# Altium schematic symbol library Schlib1.SchLib: 5 symbols
Pins are listed as number, name and electrical type; pins without a type are passive.

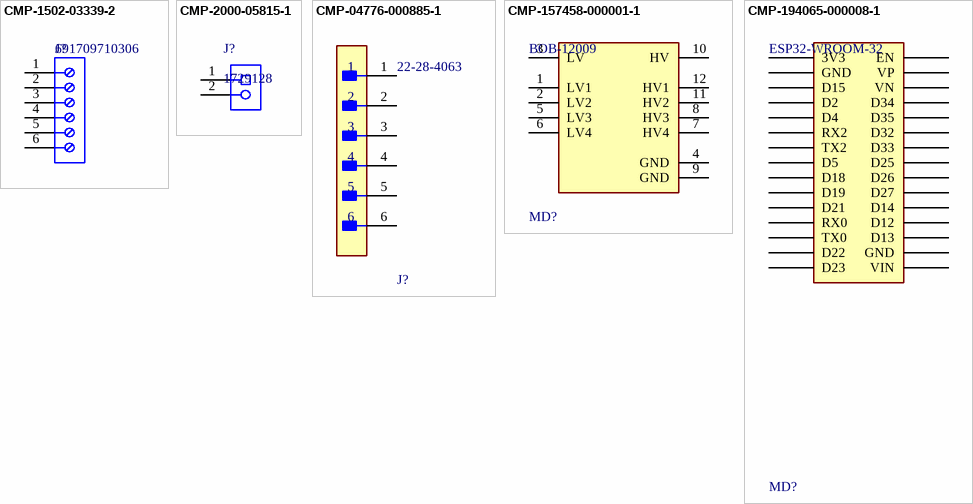
[diagram p0: symbols CMP-1502-03339-2 to CMP-194065-000008-1]

## CMP-1502-03339-2
designator J?, comment 691709710306
NexarPartId: 34171773; Wire/Cable Gauge: 30AWG; Pitch: 5mm; Wire Gauge (Min): 14AWG; Plating: Steel; Current: 6A; Number of Levels: 1; Voltage Rating: 300V; Number of Contacts: 6; Connector Type: Screw; Flammability Rating: UL94 V-0; Housing Material: Nylon; REACH SVHC: Unknown; Lead Pitch: 5mm; Contact Plating: Tin; Mount: Surface Mount; Height: 10.2mm; Number of Rows: 1; Min Operating Temperature: -40°C; RoHS: Compliant; Color: Black; Contact Material: Nickel; Wire Gauge (Max): 30AWG; Number of Pins: 6; Length: 30mm; Number of Positions: 6; Packaging: Tape & Reel (TR); Number of Positions Per Level: 6; Max Operating Temperature: 130°C; Termination: Screw; Current Rating: 6A; Voltage: 300V
footprint 691709710306 (Horizontal Entry SMT with Pressure Clamp, pitch 5mm, 06p)
pins: 1, 2, 3, 4, 5, 6

## CMP-2000-05815-1
designator J?, comment 1729128
PCB Terminal Block, 13.5 A, 400 V, 2-Pin THD, RoHS, Bulk; Manufacturer: Phoenix Contact; Package Version: 03/2015; No. of Rows: 1; Pitch: 5.08mm; No. of Positions: 2; Voltage Rating: 400V; Current Rating: 13500mA; Manufacturer URL: http://www.phoenixcontact.com/; Datasheet URL: https://datasheet.ciiva.com/16046/1729128-16046181.pdf; RoHS: TRUE; Package URL: https://www.phoenixcontact.com/online/portal/pi/pxc/product_detail_page/!ut/p/b1/3VdJjqNKFDxLH8AFycySyWY2ozFsEPOMMQaDOX1XedGL_1Vdm5YXJleknhSKeBkvI6EA8ncAo3AYoDhBQGco6KN7VURTdemj9us_IEKEZo_YHiPAEWEFmDGOHMORkqKYCORBZxgL7ZoaZYcbFFUZ3fqxSY6GOuxydWUuHqz1ynmMFygu583Bob0Ewr6Sd_l-5m-kAueHiB0jpRwZwe58wwtkpxtMYd_LmGcDRU02dRNEyWt6Y2ti5pSyJ_reIkzIulrqApdnbT11V5jnCKbYNCvhEM1MCpPByat_X379-iThf08CI5GfOPqfBeS3BRoBOdD55AKVv0iLwCMq-2BrzXWSGRH7pUGD9uwXQjiph3xL0DKQwdGa0JImiIOmBNOestqgwTHSSs2oOep-78apyXQBvNi8ZLaFjvjWvcaUEBu0MC6Wbe-d6mB0FAebo2lUWinqYaZs5DAYzV0RP9yitUjnGJ0iI9xhZkT42OCQNUJJhkgWINNQLP2JFP6OpMg3JCVg70jqHT0lvKOnhHf0lPuOnnLf0VPuWx6_dxwUIvwk5WMkT0kLL1mh61l2yZVSzG3pYV_bqo-mj6uMKwKwdnnW8Jh5RTOJzMOA5c-eJDaZQw4mTMPH02PvS_ZAqNVjVTo2WyYLkwH_KU1mmmG5kjRhDqPXLwwVHvVOjCM60-fpXvTDfMGW1PVFVS1r4e4yVDk4ZdNbkUHvqPqQSeian4UD39fNKmachqdJ1NJbyk8rXT9mXTvPk3oE5meulKGgiruPJek-4I9hTT6G8ZLOyRSm2RRVbThERQad5OS28hdt4YW4vG0stgYYzsWsK4_7y6DZMjJSCqri1kyiZR5vD7pwIrNR7QwPHTcLTI5qT7eRlpHrdGiupYlqQDJ7zy_CND8fWWBoLRXxk1RVcXiBQwbTD4Xi7KL-FuO94t9xaqweXzH; PartNumber: 1729128; Package Description: 2-Pin Through Hole Device, Body 8.1 x 10.16 mm, Pitch 5.08 mm; Datasheet Version: 12/2013; Mounting Technology: ThroughHole; Orientation: Horizontal; Package Reference: 1729128-2; Packing: Bulk
footprint PHOE-1729128-2_V (Receptacle, 2-Leads, Body 8.1x10.16mm, Pitch 5.08mm)
pins: 1, 2

## CMP-04776-000885-1
designator J?, comment 22-28-4063
CONN HEADER VERT 6POS 2.54MM; Number of Circuits: 6; Voltage Rating (DC): 250V; Connector Type: Male Pin; Contact Resistance: 20mR; Glow Wire Compliant: Non-compliant; Gender: Male; Current Rating: 4A; Max Voltage Rating (DC): 250.25kV; Series: KK® 42375; Termination: Solder; Orientation: Straight; Max Operating Temperature: 75°C; Min Operating Temperature: 0°C; Mount: Through Hole; Depth: 2.49mm; Contact Material: Brass; Number of Positions: 6; Contact Mating Length: 0.24inch; Number of Rows: 1; Housing Color: Black; Max Voltage Rating (AC): 250V; Housing Material: Thermoplastic; Packaging: Bulk; Contact Plating: Gold; Contact Type: Male Pin; Package Quantity: 1; Number of Contacts: 6; Voltage Rating: 250V; Lead Free: Lead Free; RoHS Compliant: Yes; Pitch: 2.54mm; Color: Black; Flammability Rating: UL94 V-0; Radiation Hardening: No
footprint FP-22-28-4063-MFG
pins: 1, 2, 3, 4, 5, 6

## CMP-157458-000001-1
designator MD?, comment BOB-12009
LOGIC LEVEL CONVERTER - BI-DIREC; Logic Function: Translator
footprint FP-BOB-12009-MFG
pins: 1 LV1, 2 LV2, 3 LV, 4 GND (power), 5 LV3, 6 LV4, 7 HV4, 8 HV3, 9 GND (power), 10 HV, 11 HV2, 12 HV1

## CMP-194065-000008-1
designator MD?, comment ESP32-WROOM-32
RX TXRX MOD WIFI SURFACE MOUNT; Frequency: 2.5GHz; Sensitivity: -98dBm; Operating Supply Voltage: 3.6V; Data Rate: 150Mbps; Weight: 0.088185oz; Package Quantity: 550; Min Operating Temperature: -40°C; Mount: Surface Mount; Max Operating Temperature: 85°C; Packaging: Cut Tape; Case/Package: SMD/SMT
pins: 1 GND, 2 3V3, 3 D2, 4 RX0, 5 D21, 6 D12, 7 D13, 8 D27, 9 D14, 10 D33, 11 D25, 12 D26, 15 VIN, 17 D18, 18 D19, 19 D15, 20 GND, 21 TX2, 22 D5, 28 EN, 30 VP, 31 VN, 32 TX0, 33 D34, 34 D4, 35 RX2, 36 D35, 37 D32, 38 D23, 39 D22